# Altium schematic symbol library snr9813.SchLib: 4 symbols
Pins are listed as number, name and electrical type; pins without a type are passive.

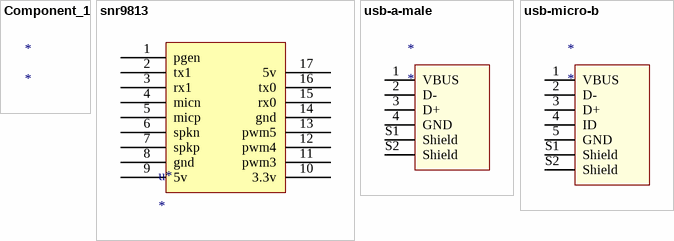
[diagram p0: symbols Component_1 to usb-micro-b]

## Component_1
designator *

## snr9813
designator u*
footprint SNR9813M17
pins: 1 pgen, 2 tx1, 3 rx1, 4 micn, 5 micp, 6 spkn, 7 spkp, 8 gnd, 9 5v, 10 3.3v, 11 pwm3, 12 pwm4, 13 pwm5, 14 gnd, 15 rx0, 16 tx0, 17 5v

## usb-a-male
designator *
footprint usb-a-mail
pins: 1 VBUS, 2 D-, 3 D+, 4 GND, S1 Shield, S2 Shield

## usb-micro-b
designator *
footprint usb-micro-b
pins: 1 VBUS, 2 D-, 3 D+, 4 ID, 5 GND, S1 Shield, S2 Shield